# Altium footprint library Switches.PcbLib: 14 footprints
Each footprint in its own frame and in the unit in brackets; x right, y up, seen from the top. Pads: shape width x height; smd on the part's side, far side on the other; paste and mask are expansions set on the pad; w line width, h text height; cw(c..) or ccw(c..) is an arc to the next point about the centre after c.
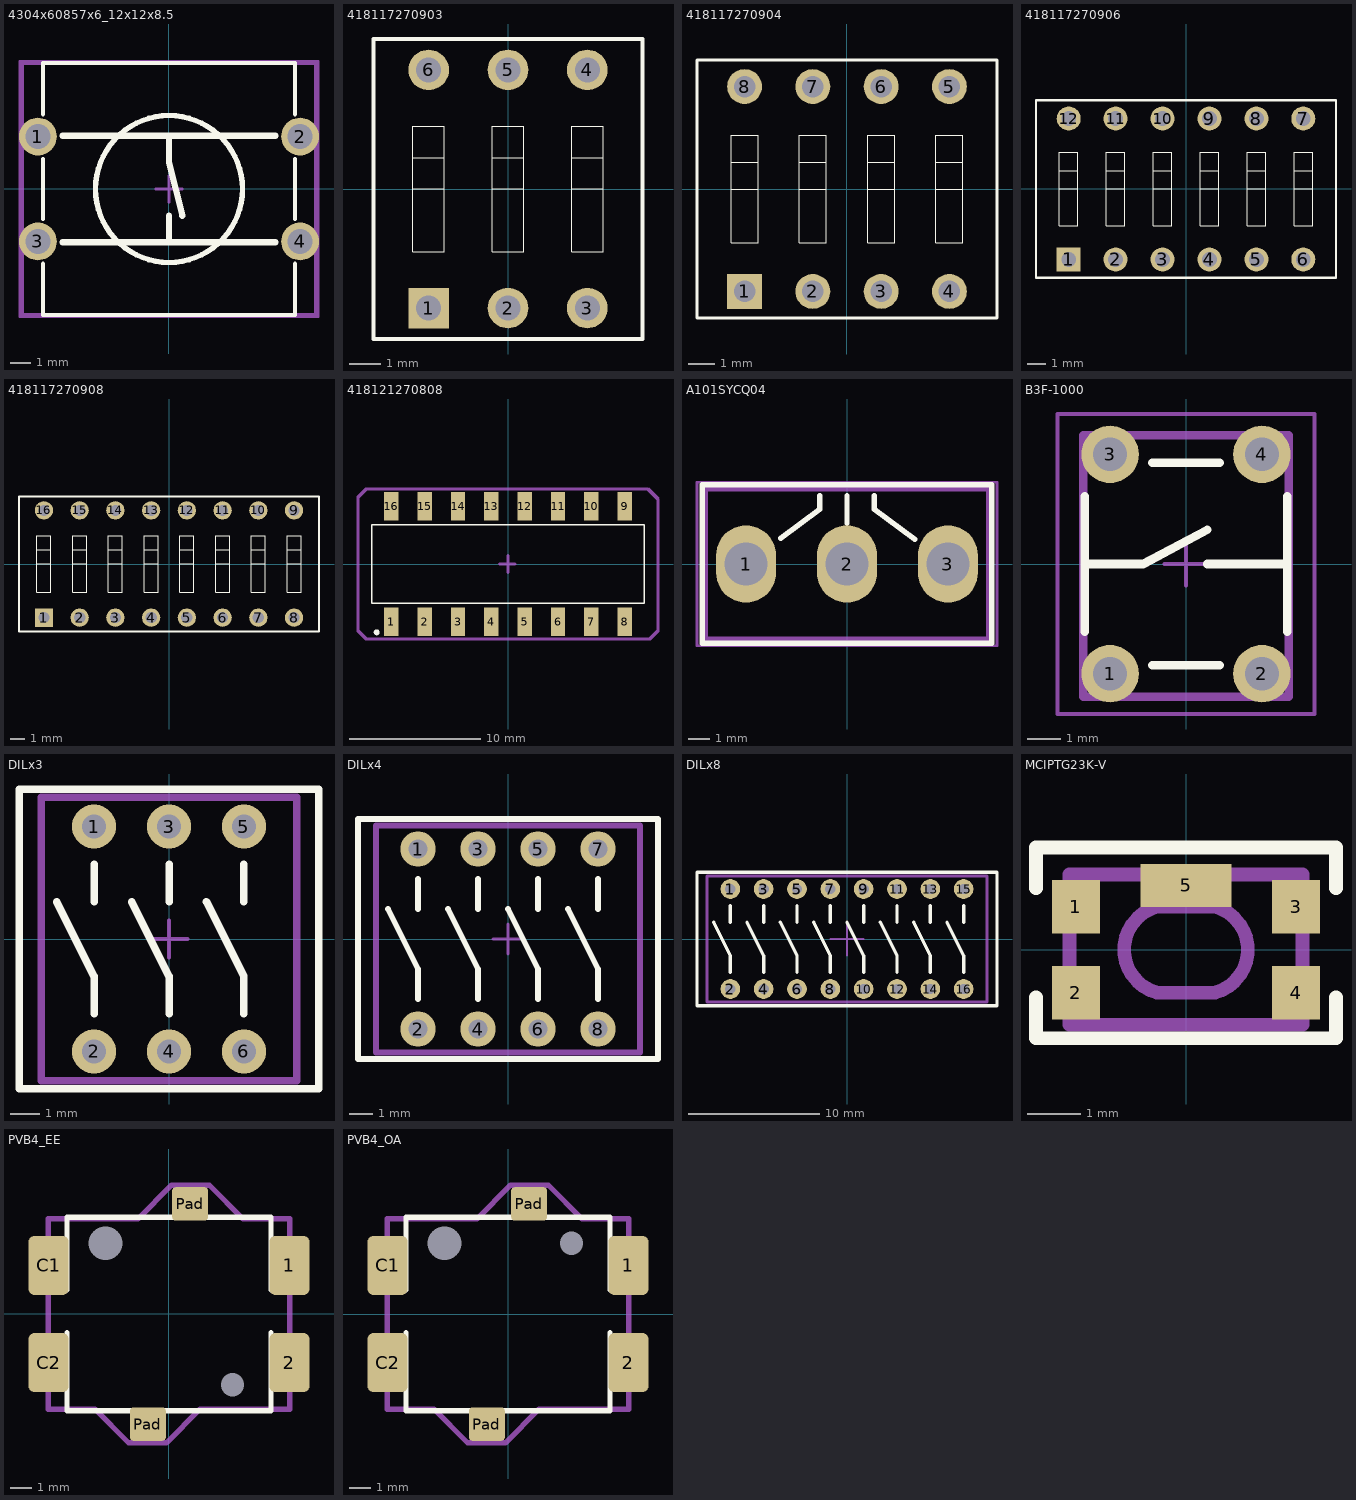
[diagram p0: the footprints below, top view; thin cyan lines are the x and y axes]

## 4304x60857x6_12x12x8.5 [mm] "12x12mm washable Tact Switch, THT version"
height 8.5
pads (4):
  round 1.8 hole 1.2: 1(-6.25,2.5) 2(6.25,2.5) 3(-6.25,-2.5) 4(6.25,-2.5)
Top Overlay:
  circle w0.254: c0,0 r3.5
  lines w0.2: -6,-3.56 -6,-6 6,-6 6,-3.56 ; -6,-1.43 -6,1.43 ; -6,3.56 -6,6 6,6 6,3.56 ; 6,-1.43 6,1.43
  lines w0.3: -5.08,-2.54 5.08,-2.54 ; -5.08,2.54 5.08,2.54 ; 0,-2.54 0,-1.27 ; 0,2.54 0,1.27 0.635,-1.27
Mechanical 13:
  lines w0.2: -7,-6 7,-6 7,6 -7,6 -7,-6
Mechanical 15:
  lines w0.127: -0.635,0 0.635,0 ; 0,-0.635 0,0.635 ; -7.112,-6.096 7.112,-6.096 7.112,6.096 -7.112,6.096 -7.112,-6.096
3D body "4304x60857x6.stp": height 8.55, standoff -3.45, extent -6.985,-6 6.986,6

## 418117270903 [mm] "03p, 2.54mm Pitch, Horizontal, Box Type, THT, raised Actuator, red, without Tape, Tube"
height 5.2
pads (6):
  rect 1.3x1.3 hole 0.8: 1(-2.54,-3.81)
  round 1.3 hole 0.8: 2(0,-3.81) 3(2.54,-3.81) 4(2.54,3.81) 5(0,3.81) 6(-2.54,3.81)
Top Overlay:
  lines w0.025: -3.04,0 -2.04,0 ; -3.04,1 -2.04,1 ; -0.5,0 0.5,0 ; -0.5,1 0.5,1 ; 2.04,0 3.04,0 ; 2.04,1 3.04,1 ; -3.04,-2 -2.04,-2 -2.04,2 -3.04,2 -3.04,-2 ; -0.5,-2 0.5,-2 0.5,2 -0.5,2 -0.5,-2 ; 2.04,-2 3.04,-2 3.04,2 2.04,2 2.04,-2
  lines w0.127: -4.31,-4.8 -4.31,4.8 ; -4.31,-4.8 4.31,-4.8 ; -4.31,-4.8 -4.31,4.8 ; -4.31,-4.8 4.31,-4.8 ; -4.31,4.8 4.31,4.8 ; -4.31,4.8 4.31,4.8 ; 4.31,-4.8 4.31,4.8 ; 4.31,-4.8 4.31,4.8
3D body "418117270903.stp": height 6.5, standoff -3.8, extent -4.31,-4.8 4.31,4.8

## 418117270904 [mm] "04p, 2.54mm Pitch, Horizontal, Box Type, THT, raised Actuator, red, without Tape, Tube"
height 5.2
pads (8):
  rect 1.3x1.3 hole 0.8: 1(-3.81,-3.81)
  round 1.3 hole 0.8: 2(-1.27,-3.81) 3(1.27,-3.81) 4(3.81,-3.81) 5(3.81,3.81) 6(1.27,3.81) 7(-1.27,3.81) 8(-3.81,3.81)
Top Overlay:
  lines w0.025: -4.31,0 -3.31,0 ; -4.31,1 -3.31,1 ; -1.77,0 -0.77,0 ; -1.77,1 -0.77,1 ; 0.77,0 1.77,0 ; 0.77,1 1.77,1 ; 3.31,0 4.31,0 ; 3.31,1 4.31,1 ; -4.31,-2 -3.31,-2 -3.31,2 -4.31,2 -4.31,-2 ; -1.77,-2 -0.77,-2 -0.77,2 -1.77,2 -1.77,-2 ; 0.77,-2 1.77,-2 1.77,2 0.77,2 0.77,-2 ; 3.31,-2 4.31,-2 4.31,2 3.31,2 3.31,-2
  lines w0.127: -5.58,-4.8 5.58,-4.8 ; -5.58,-4.8 -5.58,4.8 ; -5.58,-4.8 5.58,-4.8 ; -5.58,-4.8 -5.58,4.8 ; -5.58,4.8 5.58,4.8 ; -5.58,4.8 5.58,4.8 ; 5.58,-4.8 5.58,4.8 ; 5.58,-4.8 5.58,4.8
3D body "418117270904.stp": height 6.5, standoff -3.8, extent -5.58,-4.8 5.58,4.8

## 418117270906 [mm] "06p, 2.54mm Pitch, Horizontal, Box Type, THT, raised Actuator, red, without Tape, Tube"
height 5.2
pads (12):
  rect 1.3x1.3 hole 0.8: 1(-6.35,-3.81)
  round 1.3 hole 0.8: 2(-3.81,-3.81) 3(-1.27,-3.81) 4(1.27,-3.81) 5(3.81,-3.81) 6(6.35,-3.81) 7(6.35,3.81) 8(3.81,3.81) 9(1.27,3.81) 10(-1.27,3.81) 11(-3.81,3.81) 12(-6.35,3.81)
Top Overlay:
  lines w0.025: -6.85,0 -5.85,0 ; -6.85,1 -5.85,1 ; -4.31,0 -3.31,0 ; -4.31,1 -3.31,1 ; -1.77,0 -0.77,0 ; -1.77,1 -0.77,1 ; 0.77,0 1.77,0 ; 0.77,1 1.77,1 ; 3.31,0 4.31,0 ; 3.31,1 4.31,1 ; 5.85,0 6.85,0 ; 5.85,1 6.85,1 ; -6.85,-2 -5.85,-2 -5.85,2 -6.85,2 -6.85,-2 ; -4.31,-2 -3.31,-2 -3.31,2 -4.31,2 -4.31,-2 ; -1.77,-2 -0.77,-2 -0.77,2 -1.77,2 -1.77,-2 ; 0.77,-2 1.77,-2 1.77,2 0.77,2 0.77,-2 ; 3.31,-2 4.31,-2 4.31,2 3.31,2 3.31,-2 ; 5.85,-2 6.85,-2 6.85,2 5.85,2 5.85,-2
  lines w0.127: -8.12,-4.8 8.12,-4.8 ; -8.12,-4.8 -8.12,4.8 ; -8.12,-4.8 8.12,-4.8 ; -8.12,-4.8 -8.12,4.8 ; -8.12,4.8 8.12,4.8 ; -8.12,4.8 8.12,4.8 ; 8.12,-4.8 8.12,4.8 ; 8.12,-4.8 8.12,4.8
3D body "418117270906.stp": height 6.5, standoff -3.8, extent -8.12,-4.8 8.12,4.8

## 418117270908 [mm] "08p, 2.54mm Pitch, Horizontal, Box Type, THT, raised Actuator, red, without Tape, Tube"
height 5.2
pads (16):
  rect 1.3x1.3 hole 0.8: 1(-8.89,-3.81)
  round 1.3 hole 0.8: 2(-6.35,-3.81) 3(-3.81,-3.81) 4(-1.27,-3.81) 5(1.27,-3.81) 6(3.81,-3.81) 7(6.35,-3.81) 8(8.89,-3.81) 9(8.89,3.81) 10(6.35,3.81) 11(3.81,3.81) 12(1.27,3.81) 13(-1.27,3.81) 14(-3.81,3.81) 15(-6.35,3.81) 16(-8.89,3.81)
Top Overlay:
  lines w0.025: -9.39,0 -8.39,0 ; -9.39,1 -8.39,1 ; -6.85,0 -5.85,0 ; -6.85,1 -5.85,1 ; -4.31,0 -3.31,0 ; -4.31,1 -3.31,1 ; -1.77,0 -0.77,0 ; -1.77,1 -0.77,1 ; 0.77,0 1.77,0 ; 0.77,1 1.77,1 ; 3.31,0 4.31,0 ; 3.31,1 4.31,1 ; 5.85,0 6.85,0 ; 5.85,1 6.85,1 ; 8.39,0 9.39,0 ; 8.39,1 9.39,1 ; -9.39,-2 -8.39,-2 -8.39,2 -9.39,2 -9.39,-2 ; -6.85,-2 -5.85,-2 -5.85,2 -6.85,2 -6.85,-2 ; -4.31,-2 -3.31,-2 -3.31,2 -4.31,2 -4.31,-2 ; -1.77,-2 -0.77,-2 -0.77,2 -1.77,2 -1.77,-2 ; 0.77,-2 1.77,-2 1.77,2 0.77,2 0.77,-2 ; 3.31,-2 4.31,-2 4.31,2 3.31,2 3.31,-2 ; 5.85,-2 6.85,-2 6.85,2 5.85,2 5.85,-2 ; 8.39,-2 9.39,-2 9.39,2 8.39,2 8.39,-2
  lines w0.127: -10.66,-4.8 -10.66,4.8 ; -10.66,-4.8 10.66,-4.8 ; -10.66,-4.8 -10.66,4.8 ; -10.66,-4.8 10.66,-4.8 ; -10.66,4.8 10.66,4.8 ; -10.66,4.8 10.66,4.8 ; 10.66,-4.8 10.66,4.8 ; 10.66,-4.8 10.66,4.8
3D body "418117270908.stp": height 6.5, standoff -3.8, extent -10.66,-4.8 10.66,4.8

## 418121270808 [mm] "08p, 2.54mm Pitch, Horizontal, IC Type, SMT, raised Actuator, black, without Tape, T&R"
height 4.4
pads (16):
  rect 1.1x2.2 smd: 1(-8.89,-4.4) 2(-6.35,-4.4) 3(-3.81,-4.4) 4(-1.27,-4.4) 5(1.27,-4.4) 6(3.81,-4.4) 7(6.35,-4.4) 8(8.89,-4.4) 9(8.89,4.4) 10(6.35,4.4) 11(3.81,4.4) 12(1.27,4.4) 13(-1.27,4.4) 14(-3.81,4.4) 15(-6.35,4.4) 16(-8.89,4.4)
Top Overlay:
  circle w0.25: c-10.006,-5.207 r0.1
  lines w0.127: -10.38,-3 10.38,-3 10.38,3 -10.38,3 -10.38,-3
Mechanical 15:
  lines w0.254: -0.635,0 0.508,0 ; 0,-0.635 0,0.635 ; -11.43,-5.08 -11.43,5.08 -10.795,5.715 10.668,5.715 11.43,4.953 11.43,-5.08 10.795,-5.715 -10.795,-5.715 -11.43,-5.08
3D body "418121270808.stp": height 4.32, standoff 0, extent -10.63,-4.9 10.63,4.9

## A101SYCQ04 [mm]
pads (3):
  oval 2.8x3.6 hole 2: 1(-4.7,0) 2(0,0) 3(4.7,0)
Top Overlay:
  lines w0.254: -3.086,1.195 -1.27,2.54 -1.27,3.175 ; 0,1.905 0,3.175 ; 1.27,3.175 1.27,2.54 3.147,1.15 ; -6.731,-3.683 6.731,-3.683 6.731,3.683 -6.731,3.683 -6.731,-3.683
Mechanical 13:
  lines w0.254: -6.6,-3.5 -6.6,3.5 6.6,3.5 6.6,-3.5 -6.6,-3.5
Mechanical 15:
  lines w0.127: -0.635,0 0.635,0 ; 0,-0.635 0,0.635 ; -6.985,-3.81 -6.985,3.81 6.985,3.81 6.985,-3.81 -6.985,-3.81
Mechanical 17:
  text ".Designator" at -5.842,-2.921 h2
3D body "SPDT.step": height 30.95, standoff -1.43, extent -6.357,-3.431 6.357,3.429

## B3F-1000 [mm]
pads (4):
  round 1.7 hole 1: 1(-2.25,-3.25) 2(2.25,-3.25) 3(-2.25,3.25) 4(2.25,3.25)
Top Overlay:
  lines w0.254: -3,-2 -3,2 ; -3,0 -1.27,0 0.635,1.016 ; -1,-3 1,-3 ; -1,3 1,3 ; 0.635,0 3,0 ; 3,-2 3,2
Mechanical 13:
  lines w0.254: -3.048,-3.937 -3.048,3.81 3.048,3.81 3.048,-3.937 -3.048,-3.937
Mechanical 15:
  lines w0.127: -0.635,0 0.635,0 ; 0,-0.635 0,0.635 ; -3.81,-4.445 -3.81,4.445 3.81,4.445 3.81,-4.445 -3.81,-4.445
Mechanical 17:
  text ".Designator" at -3.175,-2.032 h2
3D body "b3f-1005.STEP": height 4.3, standoff -3.5, extent -3,-3.85 3,3.85

## DILx3 [mm]
pads (6):
  round 1.5 hole 0.8: 1(-2.54,3.81) 2(-2.54,-3.81) 3(0,3.81) 4(0,-3.81) 5(2.54,3.81) 6(2.54,-3.81)
Top Overlay:
  lines w0.254: -3.81,1.27 -2.54,-1.27 -2.54,-2.54 ; -2.54,1.27 -2.54,2.54 ; -1.27,1.27 0,-1.27 0,-2.54 ; 0,1.27 0,2.54 ; 1.27,1.27 2.54,-1.27 2.54,-2.54 ; 2.54,1.27 2.54,2.54 ; 5.08,-2.54 5.08,-1.27 ; 5.08,1.27 5.08,2.54 ; -5.08,-5.08 5.08,-5.08 5.08,5.08 -5.08,5.08 -5.08,-5.08
Mechanical 13:
  lines w0.254: -4.32,-4.8 4.32,-4.8 4.32,4.8 -4.32,4.8 -4.32,-4.8
Mechanical 15:
  lines w0.127: -0.635,0 0.635,0 ; 0,-0.635 0,0.635 ; -5.08,-5.08 -5.08,5.08 5.08,5.08 5.08,-5.08 -5.08,-5.08
Mechanical 17:
  text ".Designator" at -3.81,-2.032 h2
3D body: height 5.5, standoff 0.3, extent -4.32,-4.8 4.32,4.8
3D body: height 5.51, standoff 5.5, extent 1.637,-1.793 3.437,1.807
3D body: height 6.6, standoff 5.21, extent 1.637,0.007 3.437,1.807
3D body: height 5.51, standoff 5.5, extent -0.903,-1.793 0.897,1.807
3D body: height 6.6, standoff 5.21, extent -0.903,0.007 0.897,1.807
3D body: height 5.51, standoff 5.5, extent -3.443,-1.793 -1.643,1.807
3D body: height 6.6, standoff 5.21, extent -3.443,0.007 -1.643,1.807
3D body: height 0.3, standoff -3, extent -2.924,-3.917 -2.162,-3.676
3D body: height 0.3, standoff -3, extent -2.924,3.703 -2.162,3.944
3D body: height 0.3, standoff -3, extent -0.384,3.703 0.378,3.944
3D body: height 0.3, standoff -3, extent -0.384,-3.917 0.378,-3.676
3D body: height 0.3, standoff -3, extent 2.156,3.703 2.918,3.944
3D body: height 0.3, standoff -3, extent 2.156,-3.917 2.918,-3.676

## DILx4 [mm]
pads (8):
  round 1.5 hole 0.8: 1(-3.81,3.81) 2(-3.81,-3.81) 3(-1.27,3.81) 4(-1.27,-3.81) 5(1.27,3.81) 6(1.27,-3.81) 7(3.81,3.81) 8(3.81,-3.81)
Top Overlay:
  lines w0.254: -5.08,1.27 -3.81,-1.27 -3.81,-2.54 ; -3.81,1.27 -3.81,2.54 ; -2.54,1.27 -1.27,-1.27 -1.27,-2.54 ; -1.27,1.27 -1.27,2.54 ; 0,1.27 1.27,-1.27 1.27,-2.54 ; 1.27,1.27 1.27,2.54 ; 2.54,1.27 3.81,-1.27 3.81,-2.54 ; 3.81,1.27 3.81,2.54 ; -6.35,-5.08 6.35,-5.08 6.35,5.08 -6.35,5.08 -6.35,-5.08
Mechanical 13:
  lines w0.254: -5.59,-4.8 5.59,-4.8 5.59,4.8 -5.59,4.8 -5.59,-4.8
Mechanical 15:
  lines w0.127: -0.635,0 0.635,0 ; 0,-0.635 0,0.635 ; -6.35,-5.08 -6.35,5.08 6.35,5.08 6.35,-5.08 -6.35,-5.08
Mechanical 17:
  text ".Designator" at -5.08,-2.032 h2
3D body: height 0.3, standoff -3, extent 3.426,-3.917 4.188,-3.676
3D body: height 5.5, standoff 0.3, extent -5.59,-4.8 5.59,4.8
3D body: height 5.51, standoff 5.5, extent 2.907,-1.793 4.707,1.807
3D body: height 6.6, standoff 5.21, extent 2.907,0.007 4.707,1.807
3D body: height 5.51, standoff 5.5, extent 0.367,-1.793 2.167,1.807
3D body: height 6.6, standoff 5.21, extent 0.367,0.007 2.167,1.807
3D body: height 5.51, standoff 5.5, extent -2.173,-1.793 -0.373,1.807
3D body: height 6.6, standoff 5.21, extent -2.173,0.007 -0.373,1.807
3D body: height 5.51, standoff 5.5, extent -4.713,-1.793 -2.913,1.807
3D body: height 6.6, standoff 5.21, extent -4.713,0.007 -2.913,1.807
3D body: height 0.3, standoff -3, extent -4.194,-3.917 -3.432,-3.676
3D body: height 0.3, standoff -3, extent -4.194,3.703 -3.432,3.944
3D body: height 0.3, standoff -3, extent -1.654,3.703 -0.892,3.944
3D body: height 0.3, standoff -3, extent -1.654,-3.917 -0.892,-3.676
3D body: height 0.3, standoff -3, extent 0.886,3.703 1.648,3.944
3D body: height 0.3, standoff -3, extent 0.886,-3.917 1.648,-3.676
3D body: height 0.3, standoff -3, extent 3.426,3.703 4.188,3.944

## DILx8 [mm]
pads (16):
  round 1.5 hole 0.8: 1(-8.89,3.81) 2(-8.89,-3.81) 3(-6.35,3.81) 4(-6.35,-3.81) 5(-3.81,3.81) 6(-3.81,-3.81) 7(-1.27,3.81) 8(-1.27,-3.81) 9(1.27,3.81) 10(1.27,-3.81) 11(3.81,3.81) 12(3.81,-3.81) 13(6.35,3.81) 14(6.35,-3.81) 15(8.89,3.81) 16(8.89,-3.81)
Top Overlay:
  lines w0.254: -10.16,1.27 -8.89,-1.27 -8.89,-2.54 ; -8.89,1.27 -8.89,2.54 ; -7.62,1.27 -6.35,-1.27 -6.35,-2.54 ; -6.35,1.27 -6.35,2.54 ; -5.08,1.27 -3.81,-1.27 -3.81,-2.54 ; -3.81,1.27 -3.81,2.54 ; -2.54,1.27 -1.27,-1.27 -1.27,-2.54 ; -1.27,1.27 -1.27,2.54 ; 0,1.27 1.27,-1.27 1.27,-2.54 ; 1.27,1.27 1.27,2.54 ; 2.54,1.27 3.81,-1.27 3.81,-2.54 ; 3.81,1.27 3.81,2.54 ; 5.08,1.27 6.35,-1.27 6.35,-2.54 ; 6.35,1.27 6.35,2.54 ; 7.62,1.27 8.89,-1.27 8.89,-2.54 ; 8.89,1.27 8.89,2.54 ; -11.43,-5.08 11.43,-5.08 11.43,5.08 -11.43,5.08 -11.43,-5.08
Mechanical 13:
  lines w0.254: -10.67,-4.8 -10.67,4.8 10.67,4.8 10.67,-4.8 -10.67,-4.8
Mechanical 15:
  lines w0.127: -1.27,0 1.27,0 ; 0,-1.27 0,1.27 ; -11.43,-5.08 11.43,-5.08 11.43,5.08 -11.43,5.08 -11.43,-5.08
Mechanical 17:
  text ".Designator" at -5.08,-2.54 h2
3D body: height 5.51, standoff 5.5, extent 7.99,-1.8 9.79,1.8
3D body: height 6.6, standoff 5.21, extent 7.99,0 9.79,1.8
3D body: height 5.51, standoff 5.5, extent 5.45,-1.8 7.25,1.8
3D body: height 6.6, standoff 5.21, extent 5.45,0 7.25,1.8
3D body: height 5.51, standoff 5.5, extent 2.91,-1.8 4.71,1.8
3D body: height 6.6, standoff 5.21, extent 2.91,0 4.71,1.8
3D body: height 5.51, standoff 5.5, extent 0.37,-1.8 2.17,1.8
3D body: height 6.6, standoff 5.21, extent 0.37,0 2.17,1.8
3D body: height 5.51, standoff 5.5, extent -2.17,-1.8 -0.37,1.8
3D body: height 6.6, standoff 5.21, extent -2.17,0 -0.37,1.8
3D body: height 5.51, standoff 5.5, extent -4.71,-1.8 -2.91,1.8
3D body: height 6.6, standoff 5.21, extent -4.71,0 -2.91,1.8
3D body: height 5.51, standoff 5.5, extent -7.25,-1.8 -5.45,1.8
3D body: height 6.6, standoff 5.21, extent -7.25,0 -5.45,1.8
3D body: height 5.51, standoff 5.5, extent -9.79,-1.8 -7.99,1.8
3D body: height 6.6, standoff 5.21, extent -9.79,0 -7.99,1.8
3D body: height 0.3, standoff -3, extent -9.271,-3.924 -8.509,-3.683
3D body: height 0.3, standoff -3, extent -9.271,3.696 -8.509,3.937
3D body: height 0.3, standoff -3, extent -6.731,3.696 -5.969,3.937
3D body: height 0.3, standoff -3, extent -6.731,-3.924 -5.969,-3.683
3D body: height 0.3, standoff -3, extent -4.191,3.696 -3.429,3.937
3D body: height 0.3, standoff -3, extent -4.191,-3.924 -3.429,-3.683
3D body: height 0.3, standoff -3, extent -1.651,3.696 -0.889,3.937
3D body: height 0.3, standoff -3, extent -1.651,-3.924 -0.889,-3.683
3D body: height 0.3, standoff -3, extent 0.889,3.696 1.651,3.937
3D body: height 0.3, standoff -3, extent 0.889,-3.924 1.651,-3.683
3D body: height 0.3, standoff -3, extent 3.429,3.696 4.191,3.937
3D body: height 0.3, standoff -3, extent 3.429,-3.924 4.191,-3.683
3D body: height 0.3, standoff -3, extent 5.969,3.696 6.731,3.937
3D body: height 0.3, standoff -3, extent 5.969,-3.924 6.731,-3.683
3D body: height 0.3, standoff -3, extent 8.509,-3.924 9.271,-3.683
3D body: height 0.3, standoff -3, extent 8.509,3.696 9.271,3.937
3D body: height 5.5, standoff 0.3, extent -10.663,-4.797 10.659,4.786

## MCIPTG23K-V [mm]
pads (5):
  rect 0.9x1 smd: 1(-2.05,0.8) 2(-2.05,-0.8) 3(2.05,0.8) 4(2.05,-0.8)
  rect 1.7x0.8 smd: 5(0,1.2)
Top Overlay:
  lines w0.254: -2.794,-0.889 -2.794,-1.651 2.794,-1.651 2.794,-0.889 ; -2.794,1.143 -2.794,1.905 2.794,1.905 2.794,1.143
Mechanical 13:
  lines w0.254: -2.17,-1.4 -2.17,1.4 2.17,1.4 2.17,-1.4 -2.17,-1.4 ; -0.54,-0.8 cw(c-0.324,0) -0.54,0.8 0.54,0.8 cw(c0.324,0) 0.54,-0.8 -0.54,-0.8
3D body "MCIPTG23K-V.STEP": height 1.9, standoff 0, extent -2.3,-1.4 2.3,1.4

## PVB4_EE [mm]
pads (8):
  round 0 hole 1.6 unplated: 0(-3,3.35)
  round 0 hole 1.1 unplated: 0(3,-3.35)
  rrect30% 1.9x2.8 smd: 1(5.7,2.3) 2(5.7,-2.3) C1(-5.7,2.3) C2(-5.7,-2.3)
  rrect20% 1.7x1.575 smd: Pad(-1,-5.212) Pad(1,5.212)
Top Overlay:
  lines w0.254: -4.826,-0.889 -4.826,-4.572 4.826,-4.572 4.826,-0.889 ; -4.826,1.143 -4.826,4.572 4.826,4.572 4.826,1.143
Mechanical 13:
  lines w0.254: -5.715,-4.5 -5.715,4.5 -1.469,4.5 0.127,6.096 1.905,6.096 3.501,4.5 5.715,4.5 5.715,-4.5 1.469,-4.5 -0.127,-6.096 -1.905,-6.096 -3.501,-4.5 -5.715,-4.5
3D body: height 1.3, standoff -1.3, extent 2.554,-3.799 3.45,-2.901
3D body: height 1.3, standoff -1.3, extent -4.19,2.152 -1.8,4.548
3D body: height 9, standoff 6.4, extent -2.299,-2.196 2.798,2.198
3D body: height 6.4, standoff 0, extent -4.699,-4.5 4.7,4.5
3D body: height 12.5, standoff 9, extent -1.652,-1.613 1.648,1.687

## PVB4_OA [mm]
pads (8):
  round 0 hole 1.6 unplated: 0(-3,3.35)
  round 0 hole 1.1 unplated: 0(3,3.35)
  rrect30% 1.9x2.8 smd: 1(5.7,2.3) 2(5.7,-2.3) C1(-5.7,2.3) C2(-5.7,-2.3)
  rrect20% 1.7x1.575 smd: Pad(-1,-5.212) Pad(1,5.212)
Top Overlay:
  lines w0.254: -4.826,-0.889 -4.826,-4.572 4.826,-4.572 4.826,-0.889 ; -4.826,1.143 -4.826,4.572 4.826,4.572 4.826,1.143
Mechanical 13:
  lines w0.254: -5.715,-4.5 -5.715,4.5 -1.469,4.5 0.127,6.096 1.905,6.096 3.501,4.5 5.715,4.5 5.715,-4.5 1.469,-4.5 -0.127,-6.096 -1.905,-6.096 -3.501,-4.5 -5.715,-4.5
3D body: height 1.3, standoff -1.3, extent -4.191,2.153 -1.8,4.548
3D body: height 9, standoff 6.4, extent -2.299,-2.196 2.798,2.198
3D body: height 6.4, standoff 0, extent -4.699,-4.5 4.7,4.5
3D body: height 12.5, standoff 9, extent -1.652,-1.613 1.647,1.687
3D body: height 1.3, standoff -1.3, extent 2.554,2.901 3.45,3.799